# EAGLE library part BLE112 (library BaseApp)
BLE V4.0 . Digikey Number:- __1446-1017-2-ND__
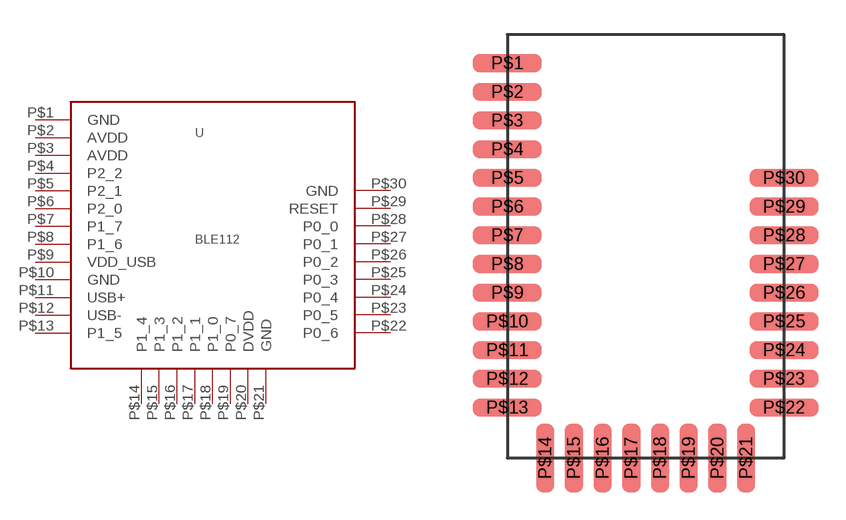
[diagram p104: symbol with the pads of BLE112; footprint BLE112]

Designator prefix -

## BLE112  [BLE112]
P$1  GND
P$2  AVDD
P$3  AVDD
P$4  P2_2
P$5  P2_1
P$6  P2_0
P$7  P1_7
P$8  P1_6
P$9  VDD_USB
P$10  GND
P$11  USB+
P$12  USB-
P$13  P1_5
P$14  P1_4
P$15  P1_3
P$16  P1_2
P$17  P1_1
P$18  P1_0
P$19  P0_7
P$20  DVDD
P$21  GND
P$22  P0_6
P$23  P0_5
P$24  P0_4
P$25  P0_3
P$26  P0_2
P$27  P0_1
P$28  P0_0
P$29  RESET
P$30  GND

## Footprint BLE112 (pad centres in mm)
smd 3 x 0.8: P$1 0,0; P$2 0,-1.25; P$3 0,-2.5; P$4 0,-3.75; P$5 0,-5; P$6 0,-6.25; P$7 0,-7.5; P$8 0,-8.75; P$9 0,-10; P$10 0,-11.25; P$11 0,-12.5; P$12 0,-13.75; P$13 0,-15; P$22 12.05,-15; P$23 12.05,-13.75; P$24 12.05,-12.5; P$25 12.05,-11.25; P$26 12.05,-10; P$27 12.05,-8.75; P$28 12.05,-7.5; P$29 12.05,-6.25; P$30 12.05,-5
smd 0.8 x 3: P$14 1.65,-17.2; P$15 2.9,-17.2; P$16 4.15,-17.2; P$17 5.4,-17.2; P$18 6.65,-17.2; P$19 7.9,-17.2; P$20 9.15,-17.2; P$21 10.4,-17.2